# Altium schematic symbol library Derogarian_Library.SchLib: 34 symbols
Pins are listed as number, name and electrical type; pins without a type are passive.

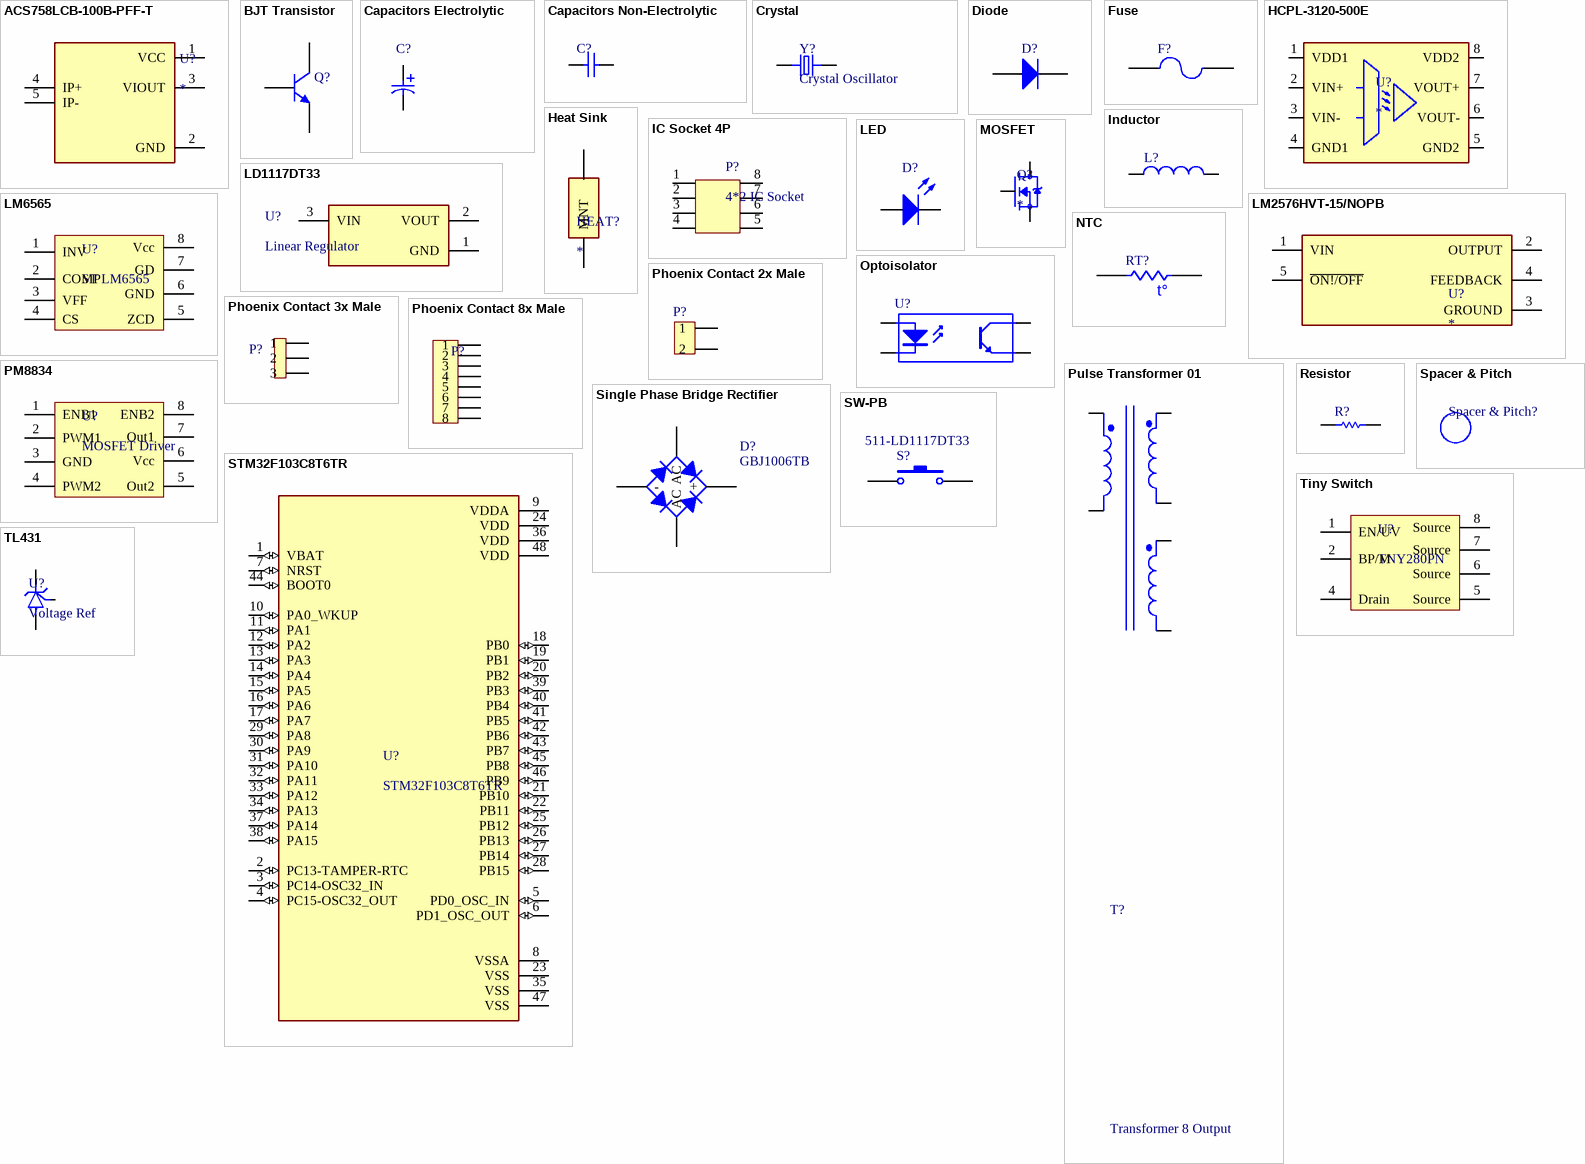
[diagram p0: symbols ACS758LCB-100B-PFF-T to TL431]

## ACS758LCB-100B-PFF-T
designator U?
Open Loop Current Sensor AC/DC Current 5V Automotive 5-Pin Case CB-PFF Tube; Manufacturer: Allegro MicroSystems; Manufacturer Part Number: ACS758LCB-100B-PFF-T; Max Supply Voltage: 5.5V; Min Supply Voltage: 3V; Output Current: 1mA; Number of Channels: 1; Frequency: 120kHz; Response Time: 4us; Max Supply Current: 13.5mA; Polarity: Bidirectional; Quiescent Current: 10mA; Linearity: 1.25%; Accuracy: 2.4%; Current Sensing: 100A; Sensitivity: 20mV/A; Supplier 1: RSComponents; RoHS: Yes; Category: Current Sensors; Stock 1: 12; Pricing 1: 1=8.18000, 25=6.70000, 100=5.66000, 250=4.92000, 500=4.71000 (GBP); Mount: Through Hole; Number of Pins: 5; Min Operating Temperature: -40°C; Max Operating Temperature: 150°C; Operating Supply Voltage: 5V; Packaging: Rail/Tube; Package Quantity: 34; Bandwidth: 120kHz; Series: -; Length: 10mm; Width: 13mm; Height: 7mm; Radiation Hardening: No; REACH SVHC: No SVHC; RoHS Compliant: Yes; ComponentLink1URL: https://datasheet.ciiva.com/15099/getdatasheetpartid-480093-15099510.pdf?src-supplier=Verical; ComponentLink1Description: https://datasheet.ciiva.com/15099/getdatasheetpartid-480093-15099510.pdf?src-supplier=Verical; ComponentLink2URL: https://datasheet.ciiva.com/1578/acs758-datasheet-1578386.pdf?src-supplier=Farnell; ComponentLink2Description: https://datasheet.ciiva.com/1578/acs758-datasheet-1578386.pdf?src-supplier=Farnell; ComponentLink3URL: https://datasheet.ciiva.com/3271/acs756-datasheet-3271998.pdf?src-supplier=Avnet; ComponentLink3Description: https://datasheet.ciiva.com/3271/acs756-datasheet-3271998.pdf?src-supplier=Avnet; Supplier Part Number 1: 6807557
footprint XDCR_ACS770KCB-150U-PFF-T
pins: 1 VCC (power), 2 GND (power), 3 VIOUT (power), 4 IP+ (power), 5 IP- (power)

## BJT Transistor
designator Q?
NPN General Purpose Amplifier; Published: 8-Jun-2000; LatestRevisionDate: 15-Jan-2003; LatestRevisionNote: PCB Footprint 'BCY-W3/D4.7' replaced; DatasheetVersion: 1997; PackageVersion: Sep-1998; PackageReference: TO-92A; Publisher: Altium Limited; PackageDescription: TO, Flat Index; 3 In-Line, Axial Leads; Body Dia. 4.5mm; Leads 0.51 x 0.48 mm (max); ComponentLink1Description: Manufacturer Link; ComponentLink1URL: http://www.fairchildsemi.com/; ComponentLink2Description: Datasheet; ComponentLink2URL: http://www.fairchildsemi.com/ds/2N%2F2N3904.pdf
footprint BJT SMD 01
footprint BJT Through Hole 01
footprint BJT SMD 02
footprint BJT SMD 03
pins: 1 E, 2 B, 3 C

## Capacitors Electrolytic
designator C?, comment Aluminum Electrolytic Capacitors  (value not drawn)
MF: Nichicon; MP: UVR2A471MHD; Price: None; Package: Radial Nichicon; Value: *; SnapEDA_Link: https://www.snapeda.com/parts/UVR2A471MHD/Nichicon/view-part/2302933/?ref=snap; Availability: Unavailable; Supplier 1: Digi-Key; Supplier Part Number 1: 1189-2012-ND
footprint Aluminum Electrolytic Capacitors 5*7.5*2.5 (Aluminum Electrolytic Capacitors)
footprint Aluminum Electrolytic Capacitors 5*12*2.5 (Aluminum Electrolytic Capacitors)
footprint Aluminum Electrolytic Capacitors 7.5*7.5*2.5 (Aluminum Electrolytic Capacitors)
footprint Aluminum Electrolytic Capacitors 8*11.5*3.5 (Aluminum Electrolytic Capacitors)
footprint Aluminum Electrolytic Capacitors 10*13*5 (Aluminum Electrolytic Capacitors)
footprint Aluminum Electrolytic Capacitors 10*16.5*5 (Aluminum Electrolytic Capacitors)
footprint Aluminum Electrolytic Capacitors 10*20*5 (Aluminum Electrolytic Capacitors)
footprint Aluminum Electrolytic Capacitors 12.5*27*5 (Aluminum Electrolytic Capacitors)
footprint Aluminum Electrolytic Capacitors 20*31*10 (Aluminum Electrolytic Capacitors)
footprint Aluminum Electrolytic Capacitors 20*36.5*10 (Aluminum Electrolytic Capacitors)
pins: 1, 2

## Capacitors Non-Electrolytic
designator C?, comment Capacitor Ceramic & Polyester  (value not drawn)
Value: *
footprint Capacitor Ceramic Lens (Through Hole Ceramic Capacitors)
footprint Capacitor Ceramic Multilayer (Through Hole Ceramic Capacitors)
footprint Capacitor Ceramic SMD 1206
footprint Capacitor Ceramic SMD 1206 (1)
footprint Capacitor Polyester High Voltage (Through Hole Ceramic Capacitors)
footprint Capacitor Ceramic SMD 805
pins: 1, 2

## Crystal
designator Y?, comment Crystal Oscillator
MF: ECS Inc.; MP: ECS-80-18-1X; SnapEDA_Link: https://www.snapeda.com/parts/ECS-80-18-1X/ECS%20Inc./view-part/2730598/?ref=snap; Price: None; Package: HC49/U ECS International; Availability: Unavailable; Value: *
footprint Crystal Oscillator DIP 01
footprint Crystal Oscillator SMD 01
footprint Crystal Oscillator SMD 02
pins: 1, 2

## Diode
designator D?, comment Through Hole & SMD Diode  (value not drawn)
Published: 8-Jun-2000; LatestRevisionDate: 17-Jul-2002; LatestRevisionNote: Re-released for DXP Platform.; DatasheetVersion: Aug-1984; PackageReference: DO-201AD; Publisher: Altium Limited; PackageDescription: Diode, Axial; Body 9.5 x 5.3 mm (LxDia. max), Lead Dia. 1.32 mm (max); ComponentLink1Description: Manufacturer Link; ComponentLink1URL: http://www.irf.com/
footprint Diode 1N4007
footprint Diode UF2007
footprint Diode US1M UF4007 SMD
footprint Diode SS310
footprint Diode Mini-MELF_01 (Mini-MELF)
footprint Diode Mini-MELF_02 (Mini-MELF)
footprint Diode Fast (Zener Diode)
footprint DIODE_BAV21W_RH
footprint Diode 3Pins
pins: 1 A, 2 K

## Fuse
designator F?, comment FUSE GLASS  (value not drawn)
250 V AC DC Fuse Cartridge, Glass Through Hole 3AB, 3AG, 1/4" x 1-1/4" (Axial); Published: 8-Jun-2000; LatestRevisionDate: 17-Jul-2002; LatestRevisionNote: Re-released for DXP Platform.; PackageReference: PIN-W2/E2.8; Publisher: Altium Limited; PackageDescription: Thru-Hole; 2 Leads; Supplier 1: Digi-Key; Supplier Part Number 1: 031501.2HXP-ND
footprint Fuse
footprint Fuse Right
footprint Fuse Full (Through Hole Fuse)
pins: 1, 2

## HCPL-3120-500E
designator U?
OPTOISO 3.75KV GATE DRVR 8DIP GW; Manufacturer: Broadcom Avago; Manufacturer Part Number: HCPL-3120-500E; Propagation Delay: 500ns; Number of Channels: 1; Forward Voltage: 1.5V; High Level Output Current: 2A; Pulse Width Distortion (PWD): 300ns; Max Output Current: 2.5A; Max Power Dissipation: 295mW; Direction: Unidirectional; Forward Current: 25mA; Reverse Breakdown Voltage: 5V; Output Voltage: 30V; Fall Time: 0.1us; Input Current: 16mA; Output Type: PUSH-PULL; Input Type: DC; Approvals: UR,CSA; Supplier 1: Newark; RoHS: Yes; Category: Optocouplers; Stock 1: 3; Pricing 1: 1=4.16000, 10=2.95000, 25=2.76000, 50=2.59000 (USD); Mount: Surface Mount; Case/Package: SMD/SMT; Number of Pins: 8; Contact Plating: Tin,Matte; Min Operating Temperature: -40°C; Max Operating Temperature: 100°C; Packaging: Tape and Reel; Low Level Output Current: 2A; Isolation Voltage: 3.75kV; Package Quantity: 1; Turn-On Delay Time: 500ns; Power Dissipation: 295mW; Number of Elements: 1; Series: -; Radiation Hardening: No; REACH SVHC: No SVHC; Lead Free: Lead Free; RoHS Compliant: Yes; ComponentLink1URL: https://datasheet.ciiva.com/34302/1550485-34302471.pdf?src-supplier=Jameco; ComponentLink1Description: https://datasheet.ciiva.com/34302/1550485-34302471.pdf?src-supplier=Jameco; ComponentLink2URL: https://datasheet.ciiva.com/15119/getdatasheetpartid-111146-15119641.pdf?src-supplier=Verical; ComponentLink2Description: https://datasheet.ciiva.com/15119/getdatasheetpartid-111146-15119641.pdf?src-supplier=Verical; Supplier Part Number 1: 52M7954
footprint HCPL3120 DIP01
footprint HCPL3120 DIP02
footprint HCPL3120 SMD01
pins: 1 VDD1 (power), 2 VIN+ (power), 3 VIN- (power), 4 GND1 (power), 5 GND2 (power), 6 VOUT- (power), 7 VOUT+ (power), 8 VDD2 (power)

## Heat Sink
designator HEAT?
Heat Sink TO-220 Aluminum 20.0W @ 60Â°C Board Level, Vertical; MP: 530002B02500G; MF: Aavid Thermalloy; Value: *; SnapEDA_Link: https://www.snapeda.com/parts/530002B02500G/Aavid+Thermalloy/view-part/?ref=snap; Purchase-URL: https://pricing.snapeda.com/search/part/530002B02500G/?ref=eda; Check_prices: https://www.snapeda.com/parts/530002B02500G/Aavid+Thermalloy/view-part/?ref=eda; Availability: In Stock; Price: None; Package: None
footprint HEATSINK 01
pins: 1 MNT, 2 MNT

## IC Socket 4P
designator P?, comment 4*2 IC Socket
footprint IC Socket 4*2P (IC OFFLINE SWITCH FLYBACK 8DIP)
pins: 1, 2, 3, 4, 5, 6, 7, 8

## Inductor
designator L?, comment Axial Inductor  (value not drawn)
Inductor; Code_IEC: 1005; Published: 8-Jun-2000; LatestRevisionDate: 29-May-2009; LatestRevisionNote: IPC-7351 Footprint Added.; PackageReference: 0402-A; Publisher: Altium Limited; PackageDescription: Chip Inductor; Code_JEITA: 0402
footprint Inductor 1 (Through Hole  Inductor)
footprint Inductor 2 (Through Hole  Inductor)
footprint Inductor Axial (Through Hole Axial Inductor)
footprint Inductor SMD 1206 (SMD 1206)
footprint Inductor SMD 805_01
footprint Inductor SMD 805_02
pins: 1, 2

## LD1117DT33
designator U?, comment Linear Regulator
LDO Regulator Pos 3.3V 1.3A 3-Pin(2+Tab) DPAK Tube; Manufacturer: STMicroelectronics; Manufacturer Part Number: LD1117DT33; Dropout Voltage: 1.1V; Max Input Voltage: 15V; Output Current: 950mA; Number of Outputs: 1; Max Power Dissipation: 12W; Min Input Voltage: 5.3V; Max Output Current: 800mA; Min Supply Voltage: 4.75V; Input Bias Current: 5mA; Polarity: Positive; Quiescent Current: 10mA; Output Voltage Accuracy: 1%; Output Type: Fixed; Supplier 1: Mouser; RoHS: Yes; Category: Voltage Regulators - Linear; Mount: Surface Mount; Case/Package: TO-252; Number of Pins: 3; Min Operating Temperature: 0°C; Max Operating Temperature: 125°C; Package Quantity: 75; Output Voltage: 3.3V; Packaging: Rail/Tube; Max Supply Voltage: 15V; Nominal Output Voltage: 3.3V; Number of Regulators: 1; Power Dissipation: 12W; Max Output Voltage: 3.3V; Termination: SMD/SMT; Voltage: 3.3V; REACH SVHC: No SVHC; RoHS Compliant: Yes; ComponentLink1URL: https://datasheet.ciiva.com/2070/cd00000544-2070990.pdf?src-supplier=Digi-Key; ComponentLink1Description: https://datasheet.ciiva.com/2070/cd00000544-2070990.pdf?src-supplier=Digi-Key; Supplier Part Number 1: 511-LD1117DT33
footprint LD1117DT33_01 (Linear Regulator)
footprint LD1117DT33_02 (Linear Regulator)
pins: 1 GND (power), 2 VOUT (power), 3 VIN (power)

## LED
designator D?
Typical RED, GREEN, YELLOW, AMBER GaAs LED; Published: 8-Jun-2000; LatestRevisionDate: 17-Jul-2002; LatestRevisionNote: Re-released for DXP Platform.; PackageVersion: Feb-2002; PackageReference: 3.2X1.6X1.1; Publisher: Altium Limited; PackageDescription: SM LED; 2 Flat Leads
footprint LED DIP_01 (Through Hole LED)
footprint LED SMD_01 (Through Hole LED)
pins: 1 A, 2 K

## LM2576HVT-15/NOPB
designator U?
SIMPLE SWITCHER® 4V to 60V, 3A Low Component Count Step-Down Regulator 5-TO-220 -40 to 125; Manufacturer: TI National Semiconductor; Manufacturer Part Number: LM2576HVT-15/NOPB; Number of Outputs: 1; Output Voltage: 15V; Efficiency: 88%; Frequency: 52kHz; Switching Frequency: 58kHz; Max Output Voltage: 15.83V; Min Output Voltage: 14.25V; Quiescent Current: 5mA; Output Type: Fixed; Supplier 1: Digi-Key; RoHS: Yes; Category: Voltage Regulators - Switching; Stock 1: 292; Pricing 1: 1=7.10000, 10=6.41800, 25=6.11920, 100=5.31320, 250=5.07444, 500=4.92800 (USD); Mount: Through Hole; Case/Package: TO-220; Number of Pins: 5; Min Operating Temperature: -40°C; Max Operating Temperature: 125°C; Max Supply Voltage: 60V; Min Supply Voltage: 4V; Max Output Current: 3A; Output Current: 3A; Packaging: Rail/Tube; Min Input Voltage: 4V; Max Input Voltage: 60V; Package Quantity: 45; Nominal Output Voltage: 15V; Termination: Through Hole; Series: LM2576HV; Length: 10.67mm; Width: 4.83mm; Height: 16.51mm; Radiation Hardening: No; REACH SVHC: No SVHC; Lead Free: Lead Free; RoHS Compliant: Yes; ComponentLink1URL: https://datasheet.ciiva.com/15112/getdatasheetpartid-97918-15112887.pdf?src-supplier=Verical; ComponentLink1Description: https://datasheet.ciiva.com/15112/getdatasheetpartid-97918-15112887.pdf?src-supplier=Verical; ComponentLink2URL: https://datasheet.ciiva.com/3219/lm2576-3219925.pdf?src-supplier=Avnet; ComponentLink2Description: https://datasheet.ciiva.com/3219/lm2576-3219925.pdf?src-supplier=Avnet; ComponentLink3URL: https://datasheet.ciiva.com/22669/1849802-22669439.pdf?src-supplier=Element14; ComponentLink3Description: https://datasheet.ciiva.com/22669/1849802-22669439.pdf?src-supplier=Element14; Supplier Part Number 1: LM2576HVT-15/NOPB-ND
footprint LM2576HVT (LM2576HVT-15/NOPB-ND)
footprint LM2576HVT SMD
pins: 1 VIN (power), 2 OUTPUT (power), 3 GROUND (power), 4 FEEDBACK (power), 5 ~{ON!/OFF} (power)

## LM6565
designator U?, comment ST LM6565
Resonant Controller Driver; Supplier 1: RSComponents; Supplier Part Number 1: 1465693
footprint 8 PIN IC (IC OFFLINE SWITCH FLYBACK 8DIP)
pins: 1 INV, 2 COMP, 3 VFF, 4 CS, 5 ZCD, 6 GND, 7 GD, 8 Vcc

## MOSFET
designator Q?
N-Channel MOSFET; MP: FDN360P; MF: ON Semiconductor; Check_prices: https://www.snapeda.com/parts/FDN360P/ON%20Semiconductor/view-part/2105995/?ref=eda; Price: None; Purchase-URL: https://pricing.snapeda.com/search/part/FDN360P/?ref=eda; Availability: Good; Package: SC-59 ON Semiconductor; SnapEDA_Link: https://www.snapeda.com/parts/FDN360P/ON%20Semiconductor/view-part/2105995/?ref=snap; Value: *
footprint MOSFET DIP01
footprint MOSFET SMD01
footprint MOSFET SMD02
footprint MOSFET DIP 02
pins: 1 G, 2 D, 3 S

## NTC
designator RT?, comment NTC Thermistor  (value not drawn)
Published: 24-Mar-1999; LatestRevisionDate: 29-May-2009; LatestRevisionNote: IPC-7351 Footprint Added.; PackageVersion: Mar-2003; PackageReference: 6-0805; Publisher: Altium Limited; PackageDescription: Chip Resistor 0805 Case Size; Code_IPC: RESC2012; Supplier 1: Digi-Key; Supplier Part Number 1: 495-76311-ND
footprint NTC Thermistor (THERMISTOR NTC)
footprint NTC Thermistor1 (THERMISTOR NTC)
pins: 1, 2
text: t°

## Optoisolator
designator U?, comment PS2501-1-H-A  (value not drawn)
Optoisolator Transistor Output 5000Vrms 1 Channel 4-DIP; Published: 24-Mar-1999; LatestRevisionDate: 04-Mar-2005; LatestRevisionNote: Sch pins 3 & 4 Swapped.; DatasheetVersion: Nov-2003; PackageReference: DIP-4; Publisher: Altium Limited; Supplier 1: Digi-Key; Supplier Part Number 1: 559-1070-ND
footprint OPTOISOLATOR 5KV TRANS 4DIP (Optoisolator Transistor Output 5000Vrms 1 Channel 4-DIP)
pins: 1 A "Anode", 2 K "Cathode", 3 E "Emitter", 4 C "Collector"

## Phoenix Contact 2x Male
designator P?, comment 1715721  (value not drawn)
TERM BLK 2P SIDE ENT 5.08MM PCB; Manufacturer: Phoenix Contact; Max Current Rating: 22A; Number of Poles: 2; Voltage Rating: 400V; Max Supply Voltage: 250V; Current Rating: 17.5A; Number of Levels: 1; Current: 15A; Voltage: 300V; Connector Type: Screw,Terminal Block,PCB; Test Voltage: 4kV; Wire Gauge (Max): 26AWG; Wire/Cable Gauge: 14AWG; Stripping Length: 7mm; Approvals: UL,CSA,cULus,EAC; Supplier 1: Digi-Key; Manufacturer Part Number: 1715721; RoHS: Yes; Category: Terminal Blocks; Stock 1: 4962; Pricing 1: 1=1.39000, 10=1.33400, 50=1.27600, 100=1.24120, 250=1.16000, 500=1.06720, 1000=0.98600, 2500=0.93960, 5000=0.89320 (USD); Mount: Through Hole; Number of Pins: 2; Color: Green; Weight: 0.103705oz; Housing Color: Green; Housing Material: Polyamide; Insulation Material: Nylon; Contact Material: Tin; Min Operating Temperature: -20°C; Max Operating Temperature: 100°C; Number of Rows: 1; Package Quantity: 50; Voltage Rating (AC): 250V; Packaging: Bulk; Number of Positions: 2; Termination: Screw; Number of Positions Per Level: 2; Number of Contacts: 2; Number of Circuits: 2; Orientation: Straight; Series: MKDS; Length: 10.16mm; Width: 17.3mm; Height: 17.3mm; Wire Gauge (Min): 26AWG; Pitch: 5.08mm; Depth: 9.8mm; Radiation Hardening: No; REACH SVHC: No SVHC; Lead Free: Lead Free; Flammability Rating: UL94 V-0; RoHS Compliant: Yes; ComponentLink1URL: https://datasheet.ciiva.com/16046/1715721-16046034.pdf?src-supplier=Onlinecomponents.com; ComponentLink1Description: https://datasheet.ciiva.com/16046/1715721-16046034.pdf?src-supplier=Onlinecomponents.com; ComponentLink2URL: https://datasheet.ciiva.com/1120/1697161-1120393.pdf?src-supplier=Farnell; ComponentLink2Description: https://datasheet.ciiva.com/1120/1697161-1120393.pdf?src-supplier=Farnell; ComponentLink3URL: https://datasheet.ciiva.com/15169/getdatasheetpartid-212174-15169929.pdf?src-supplier=Verical; ComponentLink3Description: https://datasheet.ciiva.com/15169/getdatasheetpartid-212174-15169929.pdf?src-supplier=Verical; ComponentLink4URL: https://datasheet.ciiva.com/832/1715721-832095.pdf?src-supplier=Digi-Key; ComponentLink4Description: https://datasheet.ciiva.com/832/1715721-832095.pdf?src-supplier=Digi-Key; Supplier Part Number 1: 277-1263-ND
footprint Phoenix Contact 2x Male Straight (PHOENIX_1715721)
footprint Contact SMD (SMD 1206)
pins: 1 (power), 2 (power)

## Phoenix Contact 3x Male
designator P?, comment 1888690  (value not drawn)
Fixed Terminal Blocks 3P 5.08mm 90DEG; Manufacturer: Phoenix Contact; Number of Poles: 3; Current Rating: 16A; Voltage Rating: 400V; Number of Levels: 1; Current: 20A; Voltage: 300V; Connector Type: Screw; Wire Gauge (Max): 30AWG; Wire Gauge (Min): 12AWG; Approvals: UL,VDE,cULus,CB,EAC; Supplier 1: RSComponents; Manufacturer Part Number: 1888690; RoHS: Yes; Category: Terminal Blocks; Stock 1: 1; Pricing 1: 250=1.46600 (USD); Mount: Through Hole; Number of Pins: 3; Color: Green; Weight: 0.153442oz; Housing Color: Green; Housing Material: Nylon; Contact Material: Tin; Package Quantity: 50; Packaging: Bulk; Number of Positions Per Level: 3; Termination: Screw; Number of Positions: 3; Number of Contacts: 3; Number of Circuits: 3; Orientation: Straight; Series: COMBICON MKDSN; Length: 9.5mm; Width: 18.5mm; Height: 15.24mm; Pitch: 5.08mm; Wire/Cable Gauge: 30AWG; Lead Free: Lead Free; Flammability Rating: UL94 V-0; REACH SVHC: Unknown; ComponentLink1URL: https://datasheet.ciiva.com/16047/1888690-16047140.pdf?src-supplier=Onlinecomponents.com; ComponentLink1Description: https://datasheet.ciiva.com/16047/1888690-16047140.pdf?src-supplier=Onlinecomponents.com; ComponentLink2URL: https://datasheet.ciiva.com/6745/1888690-6745529.pdf?src-supplier=Digi-Key; ComponentLink2Description: https://datasheet.ciiva.com/6745/1888690-6745529.pdf?src-supplier=Digi-Key; Supplier Part Number 1: 8717582
footprint Phoenix Contact 3x Male Straight (PHOENIX_1803439)
footprint HEADER 01 1X3 (Connector; Header; 3 Position)
pins: 1 (power), 2 (power), 3 (power)

## Phoenix Contact 8x Male
designator P?, comment 1758076  (value not drawn)
MSTBV 2 5/ 8-G-5 08; Manufacturer: Phoenix Contact; Max Current Rating: 12A; Voltage Rating (DC): 250V; Number of Poles: 8; Number of Levels: 1; Voltage: 300V; Pitch: 5.08mm; Pin Diameter: 1.4mm; Approvals: UL,CSA; Supplier 1: Digi-Key; Manufacturer Part Number: 1758076; RoHS: Yes; Category: Terminal Blocks; Stock 1: 41; Pricing 1: 1=2.75000, 10=2.62900, 50=2.55720, 100=2.39000, 250=2.19880, 500=2.03150, 1000=1.93590, 2500=1.84030 (USD); Mount: Through Hole; Contact Plating: Tin; Weight: 5.43219oz; Contact Material: Tin,Copper; Housing Color: Green; Housing Material: Polybutylene; Color: Green,Grey; Termination: Solder; Package Quantity: 50; Packaging: Bulk; Number of Rows: 1; Current Rating: 12A; Orientation: Straight; Series: MSTBV; Voltage Rating: 250V; Number of Positions Per Level: 8; Current: 12A; Number of Positions: 8; Number of Contacts: 8; Length: 40.64mm; Width: 40.64mm; Height: 15.9mm; Depth: 8.6mm; Lead Free: Lead Free; RoHS Compliant: Yes; Flammability Rating: UL94 V-0; ComponentLink1URL: https://datasheet.ciiva.com/16096/1758076-16096453.pdf?src-supplier=Onlinecomponents.com; ComponentLink1Description: https://datasheet.ciiva.com/16096/1758076-16096453.pdf?src-supplier=Onlinecomponents.com; ComponentLink2URL: https://datasheet.ciiva.com/15197/getdatasheetpartid-176364-15197352.pdf?src-supplier=Verical; ComponentLink2Description: https://datasheet.ciiva.com/15197/getdatasheetpartid-176364-15197352.pdf?src-supplier=Verical; ComponentLink3URL: https://datasheet.ciiva.com/796/1758076-796755.pdf?src-supplier=Digi-Key; ComponentLink3Description: https://datasheet.ciiva.com/796/1758076-796755.pdf?src-supplier=Digi-Key; ComponentLink4URL: https://datasheet.ciiva.com/29212/743684-da-01-de-grundgehaeuse-mstbv-2-5-8-g-5-08-29212227.pdf?src-supplier=Conrad; ComponentLink4Description: https://datasheet.ciiva.com/29212/743684-da-01-de-grundgehaeuse-mstbv-2-5-8-g-5-08-29212227.pdf?src-supplier=Conrad; ComponentLink5URL: https://datasheet.ciiva.com/20205/51-4828-20205398.pdf?src-supplier=Rapid+Electronics; ComponentLink5Description: https://datasheet.ciiva.com/20205/51-4828-20205398.pdf?src-supplier=Rapid+Electronics; Supplier Part Number 1: 277-1134-ND
footprint Phoenix Contact 8x Male Right (PHOENIX_1758076)
pins: 1 (power), 2 (power), 3 (power), 4 (power), 5 (power), 6 (power), 7 (power), 8 (power)

## PM8834
designator U?, comment MOSFET Driver
Dual Low-Side MOSFET Driver; Supplier 1: RSComponents; Supplier Part Number 1: 1465693
footprint PM8834 MOSFET Driver SO-8
pins: 1 ENB1, 2 PWM1, 3 GND, 4 PWM2, 5 Out2, 6 Vcc, 7 Out1, 8 ENB2

## Pulse Transformer 01
designator T?, comment Transformer 8 Output
Driver Transformer; Published: 25-Jan-2001; LatestRevisionDate: 17-Jul-2002; LatestRevisionNote: Re-released for DXP Platform.; PackageReference: TRF_8; Publisher: Altium Limited; PackageDescription: Transformer; 8 Leads
footprint Pulse Transformer 01
pins: 1, 3, 4, 5, 6, 8

## Resistor
designator R?, comment Through Hole & SMD  (value not drawn)
Published: 8-Jun-2000; LatestRevisionDate: 17-Jul-2002; LatestRevisionNote: Re-released for DXP Platform.; PackageReference: AXIAL-0.3; Publisher: Altium Limited; PackageDescription: Axial Device, Thru-Hole; 2 Leads; 0.3 in Pin Spacing
footprint Resistor 0.25W (Through Hole Resistor 0.25W)
footprint Resistor 0.25W Blue (Through Hole Resistor 0.25W)
footprint Resistor 2W (Through Hole Resistor 2W)
footprint Resistor 3W (Through Hole Resistor 3W)
footprint Resistor 3W VERTICAL (Through Hole Resistor VERTICAL 3W)
footprint RESISTOR SMD 2512 (6432)
footprint Resistor SMD 1206 (3216) (SMD 1206)
footprint RESISTOR SMD 1210 (3226) (SMD 1210)
footprint RESISTOR SMD 2010 (5025) (SMD 2010)
footprint RESISTOR SMD 805
pins: 1, 2

## Single Phase Bridge Rectifier
designator D?, comment GBJ1006TB
Bridge Rectifier Single Phase Standard Through Hole GBJ; Published: 8-Jun-2000; LatestRevisionDate: 29-May-2009; LatestRevisionNote: Sch pins A & K swapped.; DatasheetVersion: E2732B; PackageReference: D-38; Publisher: Altium Limited; PackageDescription: Bridge Rectifier; 4 Terminals; Body 9.4 x 9.4 mm (typ); Pitch 5.08 mm; Supplier 1: Future Electronics; Supplier Part Number 1: 6113720
footprint BRIDGE RECT 1PHASE 400V 1A WOG (B250C1000G-E4/51)
footprint BRIDGE RECT 1PHASE 600V 10A GBJ (GBJ1006TB)
footprint BRIDGE RECT 1PHASE 600V 2A GBJ (GBJ1006TB)
pins: 1 AC, 2 AC, 3 -, 4 +

## Spacer & Pitch
designator Spacer & Pitch?, comment Spacer  (value not drawn)
footprint Spacer 30mm

## STM32F103C8T6TR
designator U?
MCU 32-bit STM32F ARM Cortex M3 RISC 64KB Flash 2.5V/3.3V 48-Pin LQFP T/R; Manufacturer: STMicroelectronics; Interface: I2C,SPI,USB,CAN,USART; RAM Size: 20KB; Max Power Dissipation: 363mW; Number of I/Os: 37; Number of Timers/Counters: 4; Frequency: 72MHz; Max Supply Voltage: 3.6V; Min Supply Voltage: 2V; Number of ADC Channels: 10; Oscillator Type: Internal; Data Bus Width: 32b; Watchdog Timer: Yes; Peripherals: POR,PWM,WDT,DMA,Temp Sensor,I2C; Supplier 1: Newark; Manufacturer Part Number: STM32F103C8T6TR; RoHS: Yes; Category: Microcontrollers; Pricing 1: 1=7.35000, 10=6.60000, 25=6.25000 (USD); Case/Package: LQFP; Number of Pins: 48; Weight: 0.006409oz; Contact Plating: Gold; Min Operating Temperature: -40°C; Max Operating Temperature: 85°C; Package Quantity: 2400; Packaging: Tape and Reel; Number of Programmable I/O: 37; Max Frequency: 72MHz; Memory Type: FLASH; Memory Size: 64KB; Core Architecture: ARM; Series: STM32F103C8; Width: 7mm; Height: 1.4mm; Radiation Hardening: No; Lead Free: Lead Free; RoHS Compliant: Yes; ComponentLink1URL: https://datasheet.ciiva.com/16490/cd00161566-16490885.pdf?src-supplier=Future+Electronics; ComponentLink1Description: https://datasheet.ciiva.com/16490/cd00161566-16490885.pdf?src-supplier=Future+Electronics; ComponentLink2URL: https://datasheet.ciiva.com/12270/cd00161566-12270635.pdf?src-supplier=Mouser; ComponentLink2Description: https://datasheet.ciiva.com/12270/cd00161566-12270635.pdf?src-supplier=Mouser; Supplier Part Number 1: 07AH7012
footprint STM32F103C8T6 (ARM® Cortex®-M3 STM32F1 Microcontroller IC 32-Bit 72MHz 64KB)
pins: 1 VBAT (io), 2 PC13-TAMPER-RTC (io), 3 PC14-OSC32_IN (io), 4 PC15-OSC32_OUT (io), 5 PD0_OSC_IN (io), 6 PD1_OSC_OUT (io), 7 NRST (io), 8 VSSA (power), 9 VDDA (power), 10 PA0_WKUP (io), 11 PA1 (io), 12 PA2 (io), 13 PA3 (io), 14 PA4 (io), 15 PA5 (io), 16 PA6 (io), 17 PA7 (io), 18 PB0 (io), 19 PB1 (io), 20 PB2 (io), 21 PB10 (io), 22 PB11 (io), 23 VSS (power), 24 VDD (power), 25 PB12 (io), 26 PB13 (io), 27 PB14 (io), 28 PB15 (io), 29 PA8 (io), 30 PA9 (io), 31 PA10 (io), 32 PA11 (io), 33 PA12 (io), 34 PA13 (io), 35 VSS (power), 36 VDD (power), 37 PA14 (io), 38 PA15 (io), 39 PB3 (io), 40 PB4 (io), 41 PB5 (io), 42 PB6 (io), 43 PB7 (io), 44 BOOT0 (io), 45 PB8 (io), 46 PB9 (io), 47 VSS (power), 48 VDD (power)

## SW-PB
designator S?  Supplier Part Number 1: 511-LD1117DT33
Switch; Published: 24-Mar-1999; LatestRevisionDate: 17-Jul-2002; LatestRevisionNote: Re-released for DXP Platform.; PackageReference: SPST-2; Publisher: Altium Limited; PackageDescription: Switch; 2 Leads; Supplier 1: Mouser
footprint SW_4 PIN 01
pins: 1, 2

## Tiny Switch
designator U?, comment TNY280PN
Converter Offline Flyback Topology 132kHz 8-PDIP-C; Supplier 1: RSComponents; Supplier Part Number 1: 1465693
footprint TNY280PN (IC OFFLINE SWITCH FLYBACK 8DIP)
pins: 1 EN/UV, 2 BP/M, 4 Drain, 5 Source, 6 Source, 7 Source, 8 Source

## TL431
designator U?, comment Voltage Ref
Shunt Voltage Reference IC 36V Â±2.2% TO-92-3; MP: TL431ILP; MF: Microsemi Corporation; Availability: Unavailable; Price: None; Package: TO-92 Microsemi Corporation; DigiKey-Purchase-URL: https://snapeda.com/shop?store=DigiKey&id=187631; SnapEDA_Link: https://www.snapeda.com/parts/TL431ILP/Microsemi%20Corporation/view-part/187631/?ref=snap; Value: *; Supplier 1: Digi-Key; Supplier Part Number 1: 497-16221-ND
footprint TL431 (Voltage Reference)
footprint TL431 SMD01
pins: 1 REF, 2 A, 3 C

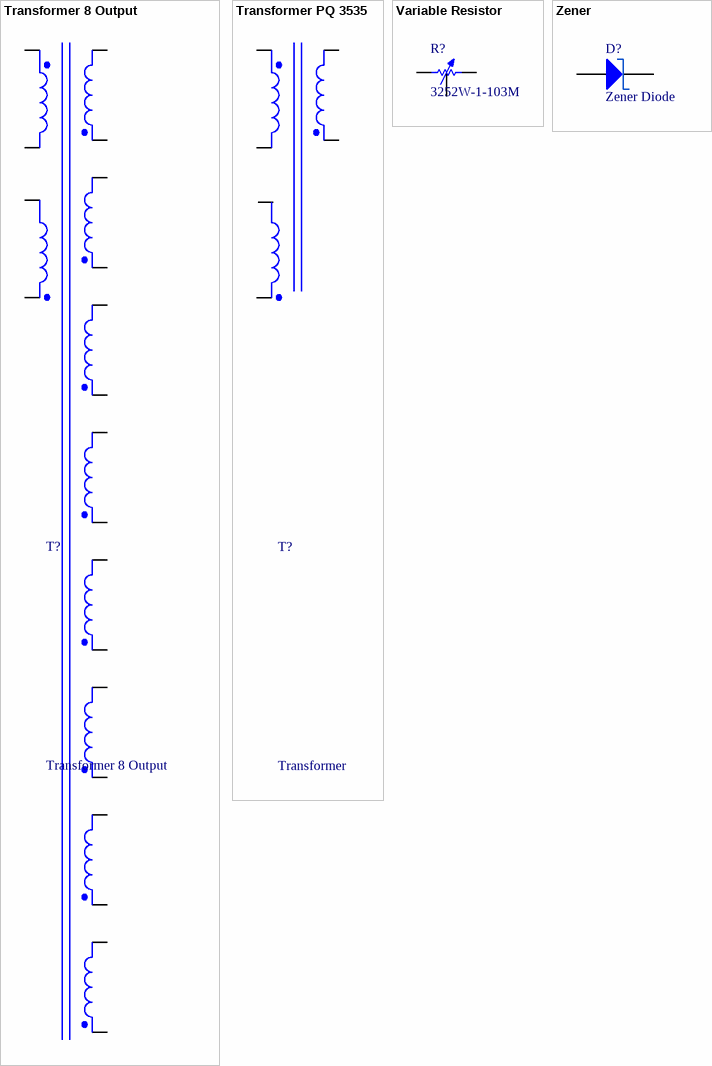
[diagram p1: symbols Transformer 8 Output to Zener]

## Transformer 8 Output
designator T?
Flyback Transformer (Ideal); Published: 25-Jan-2001; LatestRevisionDate: 17-Jul-2002; LatestRevisionNote: Re-released for DXP Platform.; PackageReference: TRF_8; Publisher: Altium Limited; PackageDescription: Transformer; 8 Leads
footprint Transformer EE25/19-Z 8 Outputs
footprint Transformer EE25/19-Z 8 Outputs NEW
pins: 1, 2, 3, 4, 5, 6, 7, 8, 9, 10, 11, 12, 13, 14, 15, 16, 17, 18, 19, 20

## Transformer PQ 3535
designator T?, comment Transformer
Flyback Transformer (Ideal); Published: 25-Jan-2001; LatestRevisionDate: 17-Jul-2002; LatestRevisionNote: Re-released for DXP Platform.; PackageReference: TRF_8; Publisher: Altium Limited; PackageDescription: Transformer; 8 Leads
footprint Transformer PQ3535
pins: 1, 2, 3, 4, 5 3, 6

## Variable Resistor
designator R?, comment 3252W-1-103M
10 kOhms 0.75W, 3/4W PC Pins Panel Mount, Through Hole Trimmer Potentiometer Cermet 25.0 Turn Top Adjustment; Set Position: 0.5; Value: 20K; Published: 8-Jun-2000; LatestRevisionDate: 17-Jul-2002; LatestRevisionNote: Re-released for DXP Platform.; PackageReference: AXIAL-0.7; Publisher: Altium Limited; PackageDescription: Axial Device, Thru-Hole; 2 Leads; 0.7 in Pin Spacing; Supplier 1: Digi-Key; Supplier Part Number 1: 3252W-103LF-ND
footprint Variable Resistor (Through Hole Trimmer Potentiometer Turn Top Adjustment)
footprint Variable Resistor1 (Through Hole Trimmer Potentiometer Turn Top Adjustment)
pins: 1, 2, 3

## Zener
designator D?, comment Zener Diode
Note: Terminal 2 is the TAB and is electrically connected to the cathode; Published: 8-Jun-2000; LatestRevisionDate: 17-Jul-2002; LatestRevisionNote: Re-released for DXP Platform.; DatasheetVersion: Dec-1997; PackageVersion: Feb-1998; PackageReference: TO-220AC; Publisher: Altium Limited; PackageDescription: TO, Thru-Hole, Vertical, Heatsink Mounted; 3 In-Line Leads (1 Absent); Pitch 2.54 mm; ComponentLink1Description: Manufacturer Link; ComponentLink1URL: http://www.irf.com/; ComponentLink2Description: Datasheet; ComponentLink2URL: http://www.irf.com/product-info/datasheets/data/18tq.pdf
footprint Zener Low Voltage (Zener Diode)
footprint Diode TVS (Through Hole Diode)
footprint Zener Mini-MELF_01 (Mini-MELF)
footprint Zener Mini-MELF_02 (Mini-MELF)
footprint Zener Mini-Melf_03
pins: 1 A, 2 K